# EAGLE library part СНП351-110ВПр21-2-Б (library connectors)
РЮМК.430420.015 ТУ Соединитель (вилка) для печатного монтажа методом «пресс-фит» СНП351 предназначен для работы в электрических цепях постоянного, переменного и импульсного токов в радиоэлектронной аппаратуре специального и общепромышленного назначения. Технические условия ОТК: РЮМК.430420.046 ТУ Технические условия ВП: РЮМК.430420.015 ТУ Производитель: АО «Карачевский завод "Электродеталь" 242500 Брянская область, г. Карачев, ул. Горького, 1
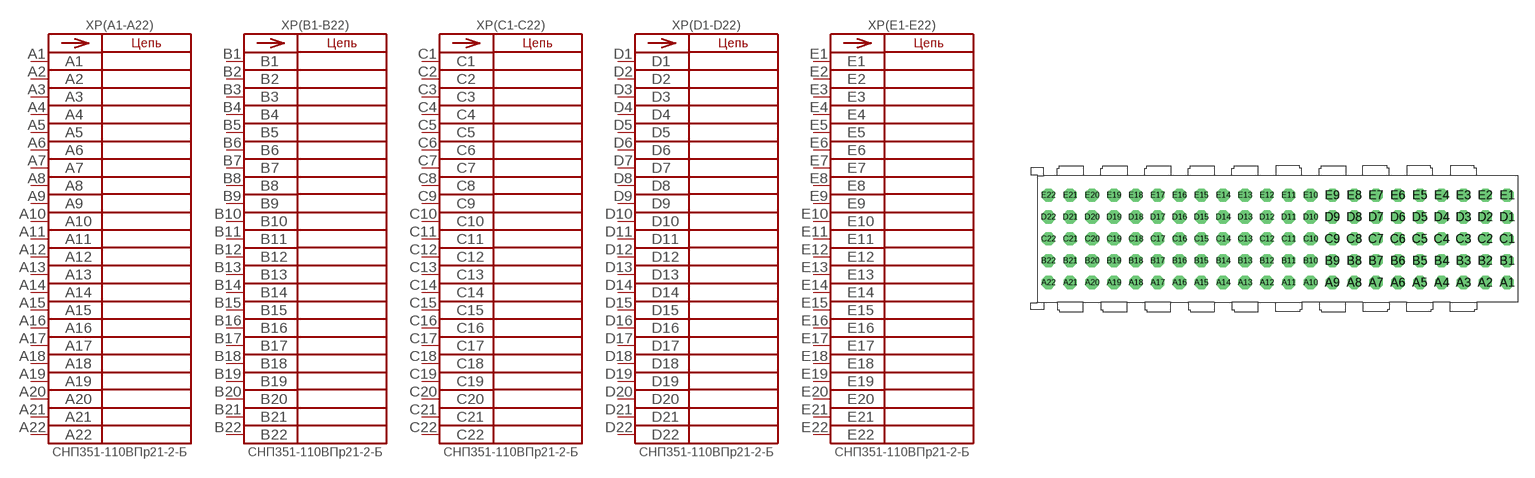
[diagram p10: symbol with the pads of СНП351-110ВПр21-2-Б; footprint СНП351-110ВПр21-2-Б]

Designator prefix XP; gates (A1-A22)=CONNECTOR_CPCI_A1_22(вилка) (B1-B22)=CONNECTOR_CPCI_B1_22(вилка) (C1-C22)=CONNECTOR_CPCI_C1_22(вилка) (D1-D22)=CONNECTOR_CPCI_D1_22(вилка) (E1-E22)=CONNECTOR_CPCI_E1_22(вилка)

## СНП351-110ВПр21-2-Б  [СНП351-110ВПр21-2-Б]
A1  (A1-A22):A1  pas
A2  (A1-A22):A2  pas
A3  (A1-A22):A3  pas
A4  (A1-A22):A4  pas
A5  (A1-A22):A5  pas
A6  (A1-A22):A6  pas
A7  (A1-A22):A7  pas
A8  (A1-A22):A8  pas
A9  (A1-A22):A9  pas
A10  (A1-A22):A10  pas
A11  (A1-A22):A11  pas
A12  (A1-A22):A12  pas
A13  (A1-A22):A13  pas
A14  (A1-A22):A14  pas
A15  (A1-A22):A15  pas
A16  (A1-A22):A16  pas
A17  (A1-A22):A17  pas
A18  (A1-A22):A18  pas
A19  (A1-A22):A19  pas
A20  (A1-A22):A20  pas
A21  (A1-A22):A21  pas
A22  (A1-A22):A22  pas
B1  (B1-B22):B1  pas
B2  (B1-B22):B2  pas
B3  (B1-B22):B3  pas
B4  (B1-B22):B4  pas
B5  (B1-B22):B5  pas
B6  (B1-B22):B6  pas
B7  (B1-B22):B7  pas
B8  (B1-B22):B8  pas
B9  (B1-B22):B9  pas
B10  (B1-B22):B10  pas
B11  (B1-B22):B11  pas
B12  (B1-B22):B12  pas
B13  (B1-B22):B13  pas
B14  (B1-B22):B14  pas
B15  (B1-B22):B15  pas
B16  (B1-B22):B16  pas
B17  (B1-B22):B17  pas
B18  (B1-B22):B18  pas
B19  (B1-B22):B19  pas
B20  (B1-B22):B20  pas
B21  (B1-B22):B21  pas
B22  (B1-B22):B22  pas
C1  (C1-C22):C1  pas
C2  (C1-C22):C2  pas
C3  (C1-C22):C3  pas
C4  (C1-C22):C4  pas
C5  (C1-C22):C5  pas
C6  (C1-C22):C6  pas
C7  (C1-C22):C7  pas
C8  (C1-C22):C8  pas
C9  (C1-C22):C9  pas
C10  (C1-C22):C10  pas
C11  (C1-C22):C11  pas
C12  (C1-C22):C12  pas
C13  (C1-C22):C13  pas
C14  (C1-C22):C14  pas
C15  (C1-C22):C15  pas
C16  (C1-C22):C16  pas
C17  (C1-C22):C17  pas
C18  (C1-C22):C18  pas
C19  (C1-C22):C19  pas
C20  (C1-C22):C20  pas
C21  (C1-C22):C21  pas
C22  (C1-C22):C22  pas
D1  (D1-D22):D1  pas
D2  (D1-D22):D2  pas
D3  (D1-D22):D3  pas
D4  (D1-D22):D4  pas
D5  (D1-D22):D5  pas
D6  (D1-D22):D6  pas
D7  (D1-D22):D7  pas
D8  (D1-D22):D8  pas
D9  (D1-D22):D9  pas
D10  (D1-D22):D10  pas
D11  (D1-D22):D11  pas
D12  (D1-D22):D12  pas
D13  (D1-D22):D13  pas
D14  (D1-D22):D14  pas
D15  (D1-D22):D15  pas
D16  (D1-D22):D16  pas
D17  (D1-D22):D17  pas
D18  (D1-D22):D18  pas
D19  (D1-D22):D19  pas
D20  (D1-D22):D20  pas
D21  (D1-D22):D21  pas
D22  (D1-D22):D22  pas
E1  (E1-E22):E1  pas
E2  (E1-E22):E2  pas
E3  (E1-E22):E3  pas
E4  (E1-E22):E4  pas
E5  (E1-E22):E5  pas
E6  (E1-E22):E6  pas
E7  (E1-E22):E7  pas
E8  (E1-E22):E8  pas
E9  (E1-E22):E9  pas
E10  (E1-E22):E10  pas
E11  (E1-E22):E11  pas
E12  (E1-E22):E12  pas
E13  (E1-E22):E13  pas
E14  (E1-E22):E14  pas
E15  (E1-E22):E15  pas
E16  (E1-E22):E16  pas
E17  (E1-E22):E17  pas
E18  (E1-E22):E18  pas
E19  (E1-E22):E19  pas
E20  (E1-E22):E20  pas
E21  (E1-E22):E21  pas
E22  (E1-E22):E22  pas

## Footprint СНП351-110ВПр21-2-Б (pad centres in mm)
drill 0.7 pad 1.016 octagon: A1 21,-4; A2 19,-4; A3 17,-4; A4 15,-4; A5 13,-4; A6 11,-4; A7 9,-4; A8 7,-4; A9 5,-4; A10 3,-4; A11 1,-4; A12 -1,-4; A13 -3,-4; A14 -5,-4; A15 -7,-4; A16 -9,-4; A17 -11,-4; A18 -13,-4; A19 -15,-4; A20 -17,-4; A21 -19,-4; A22 -21,-4; B1 21,-2; B2 19,-2; B3 17,-2; B4 15,-2; B5 13,-2; B6 11,-2; B7 9,-2; B8 7,-2; B9 5,-2; B10 3,-2; B11 1,-2; B12 -1,-2; B13 -3,-2; B14 -5,-2; B15 -7,-2; B16 -9,-2; B17 -11,-2; B18 -13,-2; B19 -15,-2; B20 -17,-2; B21 -19,-2; B22 -21,-2; C1 21,0; C2 19,0; C3 17,0; C4 15,0; C5 13,0; C6 11,0; C7 9,0; C8 7,0; C9 5,0; C10 3,0; C11 1,0; C12 -1,0; C13 -3,0; C14 -5,0; C15 -7,0; C16 -9,0; C17 -11,0; C18 -13,0; C19 -15,0; C20 -17,0; C21 -19,0; C22 -21,0; D1 21,2; D2 19,2; D3 17,2; D4 15,2; D5 13,2; D6 11,2; D7 9,2; D8 7,2; D9 5,2; D10 3,2; D11 1,2; D12 -1,2; D13 -3,2; D14 -5,2; D15 -7,2; D16 -9,2; D17 -11,2; D18 -13,2; D19 -15,2; D20 -17,2; D21 -19,2; D22 -21,2; E1 21,4; E2 19,4; E3 17,4; E4 15,4; E5 13,4; E6 11,4; E7 9,4; E8 7,4; E9 5,4; E10 3,4; E11 1,4; E12 -1,4; E13 -3,4; E14 -5,4; E15 -7,4; E16 -9,4; E17 -11,4; E18 -13,4; E19 -15,4; E20 -17,4; E21 -19,4; E22 -21,4